# Altium integrated library IC_DCDC.IntLib: 3 symbols
Pins are listed as number, name and electrical type; pins without a type are passive.

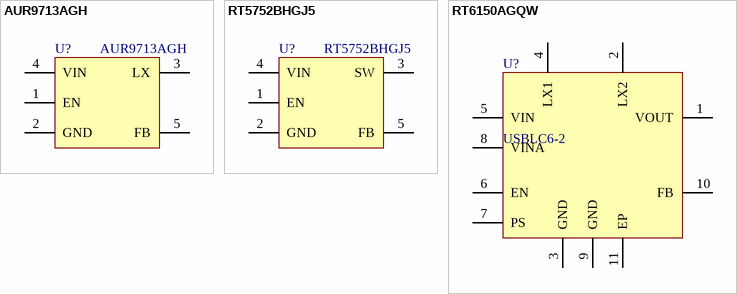
[diagram p0: symbols AUR9713AGH to RT6150AGQW]

## AUR9713AGH
designator U?
footprint TSOT-23-5
pins: 1 EN, 2 GND, 3 LX, 4 VIN, 5 FB

## RT5752BHGJ5
designator U?
2A, 1.2MHz, 6V Synchronous Step-Down Converter
footprint TSOT-23-5
pins: 1 EN, 2 GND, 3 SW, 4 VIN, 5 FB

## RT6150AGQW
designator U?, comment USBLC6-2
功能类型：升降压型 同步整流：是 输出通道数：1 拓扑结构：降压-升压式 输入电压：1.8V~5.5V 输出电压：1.8V~5.5V 输出电流(最大值)：800mA 开关频率：1MHz Buck-BoostDC/DC转换器; ComponentLink1Description: datasheet; ComponentLink1URL: https://www.richtek.com/assets/product_file/RT6150A=RT6150B/DS6150AB-05.pdf; ComponentLink2Description: manufacturer; ComponentLink2URL: https://www.richtek.com/
footprint WDFN-10_L3.0-W3.0-P0.50-BL-EP
pins: 1 VOUT, 2 LX2, 3 GND, 4 LX1, 5 VIN, 6 EN, 7 PS, 8 VINA, 9 GND, 10 FB, 11 EP